# Altium footprint library QFN-24.PcbLib: 1 footprints
Each footprint in its own frame and in the unit in brackets; x right, y up, seen from the top. Pads: shape width x height; smd on the part's side, far side on the other; paste and mask are expansions set on the pad; w line width, h text height; cw(c..) or ccw(c..) is an arc to the next point about the centre after c.
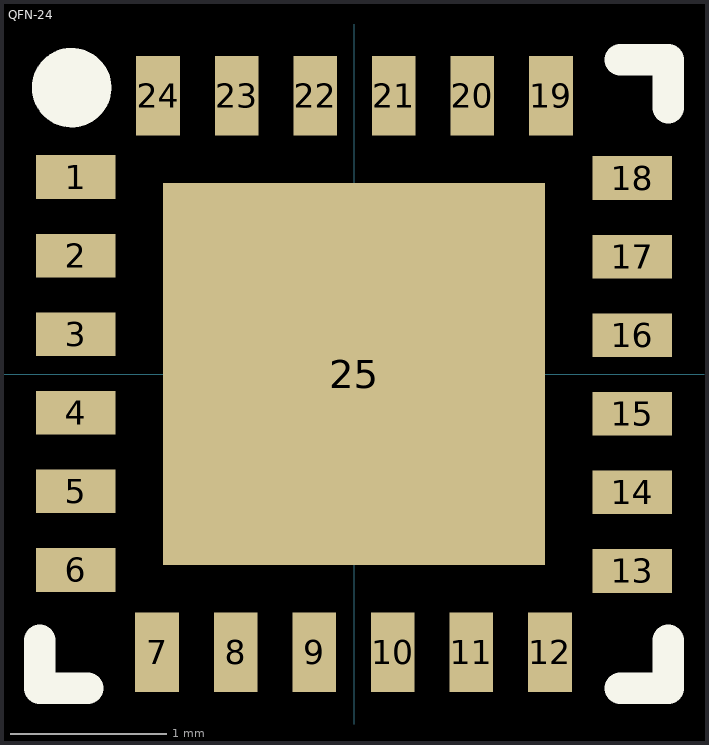
[diagram p0: the footprint, top view; thin cyan lines are the x and y axes]

## QFN-24 [mil]
pads (25):
  rect 20x11 smd: 1(-70,49.5) 2(-70,29.75) 3(-70,10) 4(-70,-9.75) 5(-70,-29.5) 6(-70,-49.25) 13(70,-49.5) 14(70,-29.75) 15(70,-10) 16(70,9.75) 17(70,29.5) 18(70,49.25)
  rect 11x20 smd: 7(-49.5,-70) 8(-29.75,-70) 9(-10,-70) 10(9.75,-70) 11(29.5,-70) 12(49.25,-70) 19(49.5,70) 20(29.75,70) 21(10,70) 22(-9.75,70) 23(-29.5,70) 24(-49.25,70)
  rect 96x96 smd: 25(0,0)
Top Overlay:
  circle w10: c-71,72 r5
  lines w8: -79,-67 -79,-79 -67,-79 ; 67,-79 79,-79 79,-67 ; 67,79 79,79 79,67
3D body: height 35.43, standoff 0, extent -78.82,-78.81 78.82,78.82